# Altium integrated library Gennum Video Buffer Amplifier.IntLib: 11 symbols
Pins are listed as number, name and electrical type; pins without a type are passive.

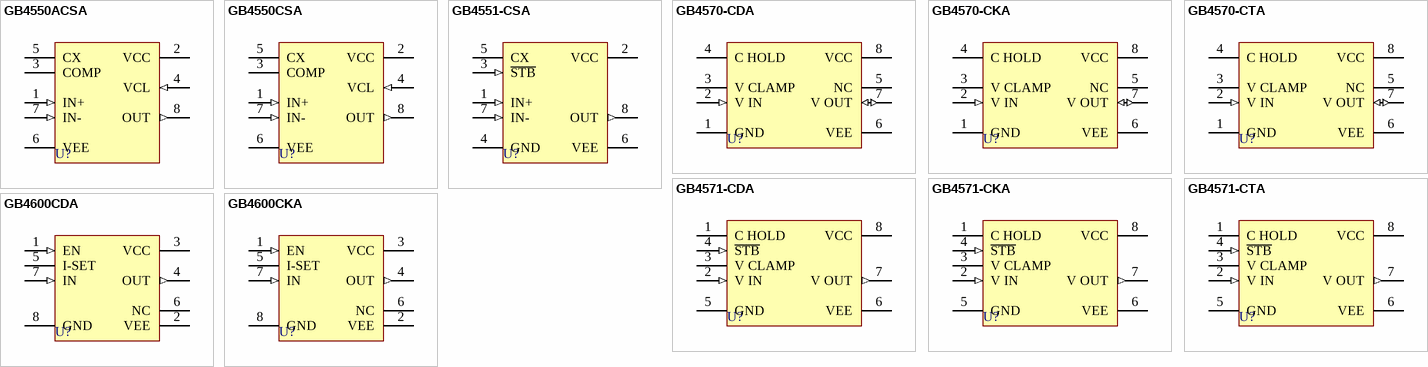
[diagram p0: symbols GB4550ACSA to GB4600CKA]

## GB4550ACSA
designator U?
Monolithic Video Buffer/Clamp; Published: 8-Jun-2000; LatestRevisionDate: 17-Jul-2002; LatestRevisionNote: Re-released for DXP Platform.; DatasheetVersion: Feb-1994; PackageReference: SIP8; Publisher: Altium Limited; PackageDescription: SIP; 8 Leads; Body 19.1 x 3.3 mm (LxW typ); Pitch 2.54 mm; ComponentLink1Description: Manufacturer Link; ComponentLink1URL: http://www.gennum.com/index.html; ComponentLink2Description: Datasheet; ComponentLink2URL: http://www.gennum.com/vb/pdffiles/52034DOC.pdf
footprint SIP8 (SIP; 8 Leads; Body 19.1 x 3.3 mm (LxW typ); Pitch 2.54 mm)
pins: 1 IN+ (in), 2 VCC (power), 3 COMP, 4 VCL (in), 5 CX, 6 VEE (power), 7 IN- (in), 8 OUT (out)

## GB4550CSA
designator U?
Monolithic Video Buffer/Clamp; Published: 8-Jun-2000; LatestRevisionDate: 17-Jul-2002; LatestRevisionNote: Re-released for DXP Platform.; DatasheetVersion: Feb-1994; PackageReference: SIP8; Publisher: Altium Limited; PackageDescription: SIP; 8 Leads; Body 19.1 x 3.3 mm (LxW typ); Pitch 2.54 mm; ComponentLink1Description: Manufacturer Link; ComponentLink1URL: http://www.gennum.com/index.html; ComponentLink2Description: Datasheet; ComponentLink2URL: http://www.gennum.com/vb/pdffiles/52034DOC.pdf
footprint SIP8 (SIP; 8 Leads; Body 19.1 x 3.3 mm (LxW typ); Pitch 2.54 mm)
pins: 1 IN+ (in), 2 VCC (power), 3 COMP, 4 VCL (in), 5 CX, 6 VEE (power), 7 IN- (in), 8 OUT (out)

## GB4551-CSA
designator U?
Video Buffer with Strobed DC Restore; Published: 8-Jun-2000; LatestRevisionDate: 17-Jul-2002; LatestRevisionNote: Re-released for DXP Platform.; DatasheetVersion: Jun-1992; PackageReference: SIP8; Publisher: Altium Limited; PackageDescription: SIP; 8 Leads; Body 19.1 x 3.3 mm (LxW typ); Pitch 2.54 mm; ComponentLink1Description: Manufacturer Link; ComponentLink1URL: http://www.gennum.com/index.html; ComponentLink2Description: Datasheet; ComponentLink2URL: http://www.gennum.com/vb/pdffiles/52052DOC.pdf
footprint SIP8 (SIP; 8 Leads; Body 19.1 x 3.3 mm (LxW typ); Pitch 2.54 mm)
pins: 1 IN+ (in), 2 VCC (power), 3 ~{STB} (in), 4 GND (power), 5 CX, 6 VEE (power), 7 IN- (in), 8 OUT (out)

## GB4570-CDA
designator U?
Monolithic Video Buffer/Clamp; Published: 8-Jun-2000; LatestRevisionDate: 17-Jul-2002; LatestRevisionNote: Re-released for DXP Platform.; DatasheetVersion: Jul-1992; PackageVersion: Nov-1999; PackageReference: PDIP8; Publisher: Altium Limited; PackageDescription: DIP; 8 Leads; Row Spacing 7.62 mm; Pitch 2.54 mm; ComponentLink1Description: Manufacturer Link; ComponentLink1URL: http://www.gennum.com/index.html; ComponentLink2Description: Datasheet; ComponentLink2URL: http://www.gennum.com/vb/pdffiles/52118DOC.pdf
footprint PDIP8 (DIP; 8 Leads; Row Spacing 7.62 mm; Pitch 2.54 mm)
pins: 1 GND (power), 2 V IN (in), 3 V CLAMP, 4 C HOLD, 5 NC, 6 VEE (power), 7 V OUT (io), 8 VCC (power)

## GB4570-CKA
designator U?
Monolithic Video Buffer/Clamp; Published: 8-Jun-2000; LatestRevisionDate: 13-Apr-2006; LatestRevisionNote: IPC-7351 Footprint Added.; DatasheetVersion: Jul-1992; PackageReference: SOIC8; Publisher: Altium Limited; PackageDescription: 8-Pin Small Outline Integrated Circuit 1.27 mm Pitch; Code_JEDEC: MS-012-AA; Code_IPC: SOIC127P600-8; ComponentLink1Description: Manufacturer Link; ComponentLink1URL: http://www.gennum.com/index.html; ComponentLink2Description: Datasheet; ComponentLink2URL: http://www.gennum.com/vb/pdffiles/52118DOC.pdf
footprint SOIC8_N (SOIC, 8-Leads, Body 4.8x3.9mm, Pitch 1.27mm, IPC Medium Density)
footprint SOIC8_L (SOIC, 8-Leads, Body 4.8x3.9mm, Pitch 1.27mm, IPC High Density)
footprint SOIC8_M (SOIC, 8-Leads, Body 4.8x3.9mm, Pitch 1.27mm, IPC Low Density)
3D model SOIC8 (8-Pin Small Outline Integrated Circuit 1.27 mm Pitch)
pins: 1 GND (power), 2 V IN (in), 3 V CLAMP, 4 C HOLD, 5 NC, 6 VEE (power), 7 V OUT (io), 8 VCC (power)

## GB4570-CTA
designator U?
Monolithic Video Buffer/Clamp; Published: 8-Jun-2000; LatestRevisionDate: 13-Apr-2006; LatestRevisionNote: IPC-7351 Footprint Added.; DatasheetVersion: Jul-1992; PackageReference: SOIC8T; Publisher: Altium Limited; PackageDescription: 8-Pin Small Outline Integrated Circuit 1.27 mm Pitch; Code_JEDEC: MS-012-AA; Code_IPC: SOIC127P600-8; ComponentLink1Description: Manufacturer Link; ComponentLink1URL: http://www.gennum.com/index.html; ComponentLink2Description: Datasheet; ComponentLink2URL: http://www.gennum.com/vb/pdffiles/52118DOC.pdf
footprint SOIC8T_N (SOIC, 8-Leads, Body 4.8x3.9mm, Pitch 1.27mm, IPC Medium Density)
footprint SOIC8T_L (SOIC, 8-Leads, Body 4.8x3.9mm, Pitch 1.27mm, IPC High Density)
footprint SOIC8T_M (SOIC, 8-Leads, Body 4.8x3.9mm, Pitch 1.27mm, IPC Low Density)
3D model SOIC8 (8-Pin Small Outline Integrated Circuit 1.27 mm Pitch)
pins: 1 GND (power), 2 V IN (in), 3 V CLAMP, 4 C HOLD, 5 NC, 6 VEE (power), 7 V OUT (io), 8 VCC (power)

## GB4571-CDA
designator U?
Video Buffer with Precision Strobed DC Restore; Published: 8-Jun-2000; LatestRevisionDate: 17-Jul-2002; LatestRevisionNote: Re-released for DXP Platform.; DatasheetVersion: Sep-1994; PackageVersion: Nov-1999; PackageReference: PDIP8; Publisher: Altium Limited; PackageDescription: DIP; 8 Leads; Row Spacing 7.62 mm; Pitch 2.54 mm; ComponentLink1Description: Manufacturer Link; ComponentLink1URL: http://www.gennum.com/index.html; ComponentLink2Description: Datasheet; ComponentLink2URL: http://www.gennum.com/vb/pdffiles/52117DOC.pdf
footprint PDIP8 (DIP; 8 Leads; Row Spacing 7.62 mm; Pitch 2.54 mm)
pins: 1 C HOLD, 2 V IN (in), 3 V CLAMP, 4 ~{STB} (in), 5 GND (power), 6 VEE (power), 7 V OUT (out), 8 VCC (power)

## GB4571-CKA
designator U?
Video Buffer with Precision Strobed DC Restore; Published: 8-Jun-2000; LatestRevisionDate: 13-Apr-2006; LatestRevisionNote: IPC-7351 Footprint Added.; DatasheetVersion: Sep-1994; PackageReference: SOIC8; Publisher: Altium Limited; PackageDescription: 8-Pin Small Outline Integrated Circuit 1.27 mm Pitch; Code_JEDEC: MS-012-AA; Code_IPC: SOIC127P600-8; ComponentLink1Description: Manufacturer Link; ComponentLink1URL: http://www.gennum.com/index.html; ComponentLink2Description: Datasheet; ComponentLink2URL: http://www.gennum.com/vb/pdffiles/52117DOC.pdf
footprint SOIC8_N (SOIC, 8-Leads, Body 4.8x3.9mm, Pitch 1.27mm, IPC Medium Density)
footprint SOIC8_L (SOIC, 8-Leads, Body 4.8x3.9mm, Pitch 1.27mm, IPC High Density)
footprint SOIC8_M (SOIC, 8-Leads, Body 4.8x3.9mm, Pitch 1.27mm, IPC Low Density)
3D model SOIC8 (8-Pin Small Outline Integrated Circuit 1.27 mm Pitch)
pins: 1 C HOLD, 2 V IN (in), 3 V CLAMP, 4 ~{STB} (in), 5 GND (power), 6 VEE (power), 7 V OUT (out), 8 VCC (power)

## GB4571-CTA
designator U?
Video Buffer with Precision Strobed DC Restore; Published: 8-Jun-2000; LatestRevisionDate: 13-Apr-2006; LatestRevisionNote: IPC-7351 Footprint Added.; DatasheetVersion: Sep-1994; PackageReference: SOIC8T; Publisher: Altium Limited; PackageDescription: 8-Pin Small Outline Integrated Circuit 1.27 mm Pitch; Code_JEDEC: MS-012-AA; Code_IPC: SOIC127P600-8; ComponentLink1Description: Manufacturer Link; ComponentLink1URL: http://www.gennum.com/index.html; ComponentLink2Description: Datasheet; ComponentLink2URL: http://www.gennum.com/vb/pdffiles/52117DOC.pdf
footprint SOIC8T_N (SOIC, 8-Leads, Body 4.8x3.9mm, Pitch 1.27mm, IPC Medium Density)
footprint SOIC8T_L (SOIC, 8-Leads, Body 4.8x3.9mm, Pitch 1.27mm, IPC High Density)
footprint SOIC8T_M (SOIC, 8-Leads, Body 4.8x3.9mm, Pitch 1.27mm, IPC Low Density)
3D model SOIC8 (8-Pin Small Outline Integrated Circuit 1.27 mm Pitch)
pins: 1 C HOLD, 2 V IN (in), 3 V CLAMP, 4 ~{STB} (in), 5 GND (power), 6 VEE (power), 7 V OUT (out), 8 VCC (power)

## GB4600CDA
designator U?
Monolithic Unity Gain Video Buffer; Note: The Current Will Be Maximum If The Pins is Left Open Circuit; Published: 8-Jun-2000; LatestRevisionDate: 17-Jul-2002; LatestRevisionNote: Re-released for DXP Platform.; DatasheetVersion: Feb-1994; PackageVersion: Nov-1999; PackageReference: PDIP8; Publisher: Altium Limited; PackageDescription: DIP; 8 Leads; Row Spacing 7.62 mm; Pitch 2.54 mm; ComponentLink1Description: Manufacturer Link; ComponentLink1URL: http://www.gennum.com/index.html; ComponentLink2Description: Datasheet; ComponentLink2URL: http://www.gennum.com/vb/pdffiles/52040DOC.pdf
footprint PDIP8 (DIP; 8 Leads; Row Spacing 7.62 mm; Pitch 2.54 mm)
pins: 1 EN (in), 2 VEE (power), 3 VCC (power), 4 OUT (out), 5 I-SET, 6 NC, 7 IN (in), 8 GND (power)

## GB4600CKA
designator U?
Monolithic Unity Gain Video Buffer; Note: The Current Will Be Maximum If The Pins is Left Open Circuit; Published: 8-Jun-2000; LatestRevisionDate: 13-Apr-2006; LatestRevisionNote: IPC-7351 Footprint Added.; DatasheetVersion: Feb-1994; PackageReference: SOIC8; Publisher: Altium Limited; PackageDescription: 8-Pin Small Outline Integrated Circuit 1.27 mm Pitch; Code_JEDEC: MS-012-AA; Code_IPC: SOIC127P600-8; ComponentLink1Description: Manufacturer Link; ComponentLink1URL: http://www.gennum.com/index.html; ComponentLink2Description: Datasheet; ComponentLink2URL: http://www.gennum.com/vb/pdffiles/52040DOC.pdf
footprint SOIC8_N (SOIC, 8-Leads, Body 4.8x3.9mm, Pitch 1.27mm, IPC Medium Density)
footprint SOIC8_L (SOIC, 8-Leads, Body 4.8x3.9mm, Pitch 1.27mm, IPC High Density)
footprint SOIC8_M (SOIC, 8-Leads, Body 4.8x3.9mm, Pitch 1.27mm, IPC Low Density)
3D model SOIC8 (8-Pin Small Outline Integrated Circuit 1.27 mm Pitch)
pins: 1 EN (in), 2 VEE (power), 3 VCC (power), 4 OUT (out), 5 I-SET, 6 NC, 7 IN (in), 8 GND (power)